# Altium schematic symbol library Schlib1.SchLib: 1 symbol
Pins are listed as number, name and electrical type; pins without a type are passive.

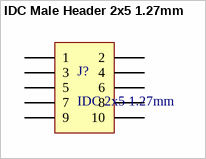
[diagram p0: symbol IDC Male Header 2x5 1.27mm]

## IDC Male Header 2x5 1.27mm
designator J?, comment IDC 2x5 1.27mm
IDC Male Header 2x5 1.27mm
pins: ?1 2, ?2 6, ?3 4, ?4 8, ?5 10, ?6 1, ?7 3, ?8 5, ?9 7, ?10 9